# Altium integrated library RES_Variable.IntLib: 12 symbols
Pins are listed as number, name and electrical type; pins without a type are passive.

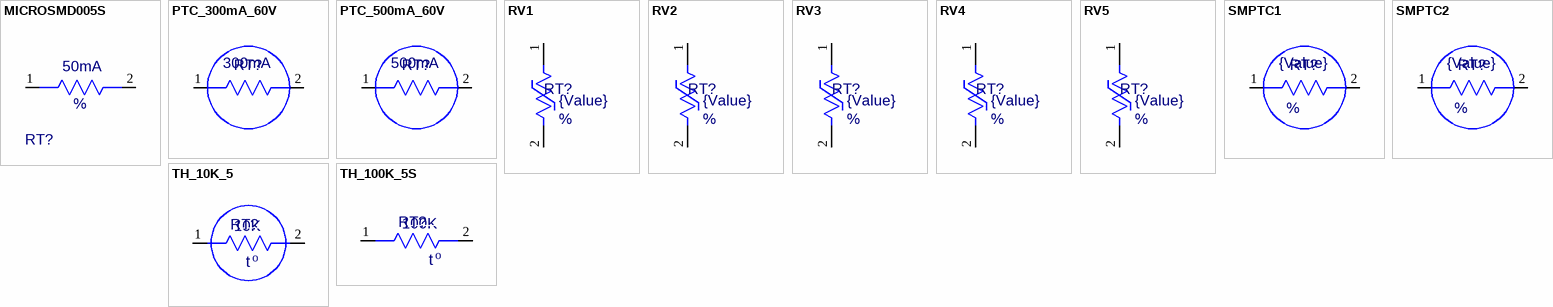
[diagram p0: symbols MICROSMD005S to TH_100K_5S]

## MICROSMD005S
designator RT?, comment value 50mA  Tolerance: %  (hidden comment: 70661-341)
PTC, 50mA; ECAD_Revision: 2; Librarian: UK; PartNumber: 70661-341; Item: *
footprint RM_1210 (Raychem microSMD005F PTC fuse.)
pins: 1, 2

## PTC_300mA_60V
designator RT?, comment value 300mA  (hidden comment: 60202-0018)
PTC, 300mA 60V; ECAD_Revision: 1; Librarian: US; Tolerance: %; PartNumber: 60202-0018; Power Rating: 60V; Item: *
footprint SMPTC
pins: 1, 2

## PTC_500mA_60V
designator RT?, comment value 500mA  (hidden comment: 60202-0026)
PTC, 500mA 60V; ECAD_Revision: 1; Librarian: US; Tolerance: %; PartNumber: 60202-0026; Power Rating: 60V; Item: *
footprint SMPTC
pins: 1, 2

## RV1
designator RT?, comment value {Value}  Tolerance: %  (hidden comment: For future use)
Varistor; ECAD_Revision: 1; Librarian: US; PartNumber: For future use; HelpURL: K:\ACCELEDA\PDF Spec Files\Resistor\pan erz.pdf; Item: *
footprint RV1
pins: 1, 2

## RV2
designator RT?, comment value {Value}  Tolerance: %  (hidden comment: For future use)
Varistor,; ECAD_Revision: 1; Librarian: US; PartNumber: For future use; HelpURL: K:\ACCELEDA\PDF Spec Files\Resistor\pan erz.pdf; Item: *
footprint RV2
pins: 1, 2

## RV3
designator RT?, comment value {Value}  Tolerance: %  (hidden comment: For future use)
Varistor,; ECAD_Revision: 1; Librarian: US; PartNumber: For future use; HelpURL: K:\ACCELEDA\PDF Spec Files\Resistor\pan erz.pdf; Item: *
footprint RV3
pins: 1, 2

## RV4
designator RT?, comment value {Value}  Tolerance: %  (hidden comment: For future use)
Varistor,; ECAD_Revision: 1; Librarian: US; PartNumber: For future use; HelpURL: K:\ACCELEDA\PDF Spec Files\Resistor\pan erz.pdf; Item: *
footprint RV4
pins: 1, 2

## RV5
designator RT?, comment value {Value}  Tolerance: %  (hidden comment: For future use)
Varistor,; ECAD_Revision: 1; Librarian: US; PartNumber: For future use; HelpURL: K:\ACCELEDA\PDF Spec Files\Resistor\pan erz.pdf; Item: *
footprint RV5
pins: 1, 2

## SMPTC1
designator RT?, comment value {Value}  Tolerance: %  (hidden comment: For future use)
PTC,; ECAD_Revision: 1; Librarian: US; PartNumber: For future use; Item: *
footprint SMPTC1
pins: 1, 2

## SMPTC2
designator RT?, comment value {Value}  Tolerance: %  (hidden comment: For future use)
PTC,; ECAD_Revision: 1; Librarian: US; PartNumber: For future use; HelpURL: K:\ACCELEDA\PDF Spec Files\Resistor\1812L.PDF; Item: *
footprint SMPTC2
pins: 1, 2

## TH_10K_5
designator RT?, comment value 10K  (hidden comment: 52626-0021)
Thermistor, 10K, 5%; ECAD_Revision: 1; Librarian: US; PartNumber: 52626-0021; Item: *; Tolerance: 5%
footprint R0805
pins: 1, 2
text: t; o

## TH_100K_5S
designator RT?, comment value 100K  (hidden comment: AWT25-000061)
Thermistor, 100K, 5%; Power Rating: 0W500; ECAD_Revision: 3; Librarian: UK; PartNumber: AWT25-000061; Item: *; Tolerance: 5%
footprint R254_500_400_090 (Vishay BC Comps. 2322 640 6.338-6.221)
pins: 1, 2
text: t; o